# Altium integrated library Analog Devices RF IF Modulators and Demodulators.IntLib: 86 symbols (part 1 of 8)
Pins are listed as number, name and electrical type; pins without a type are passive.

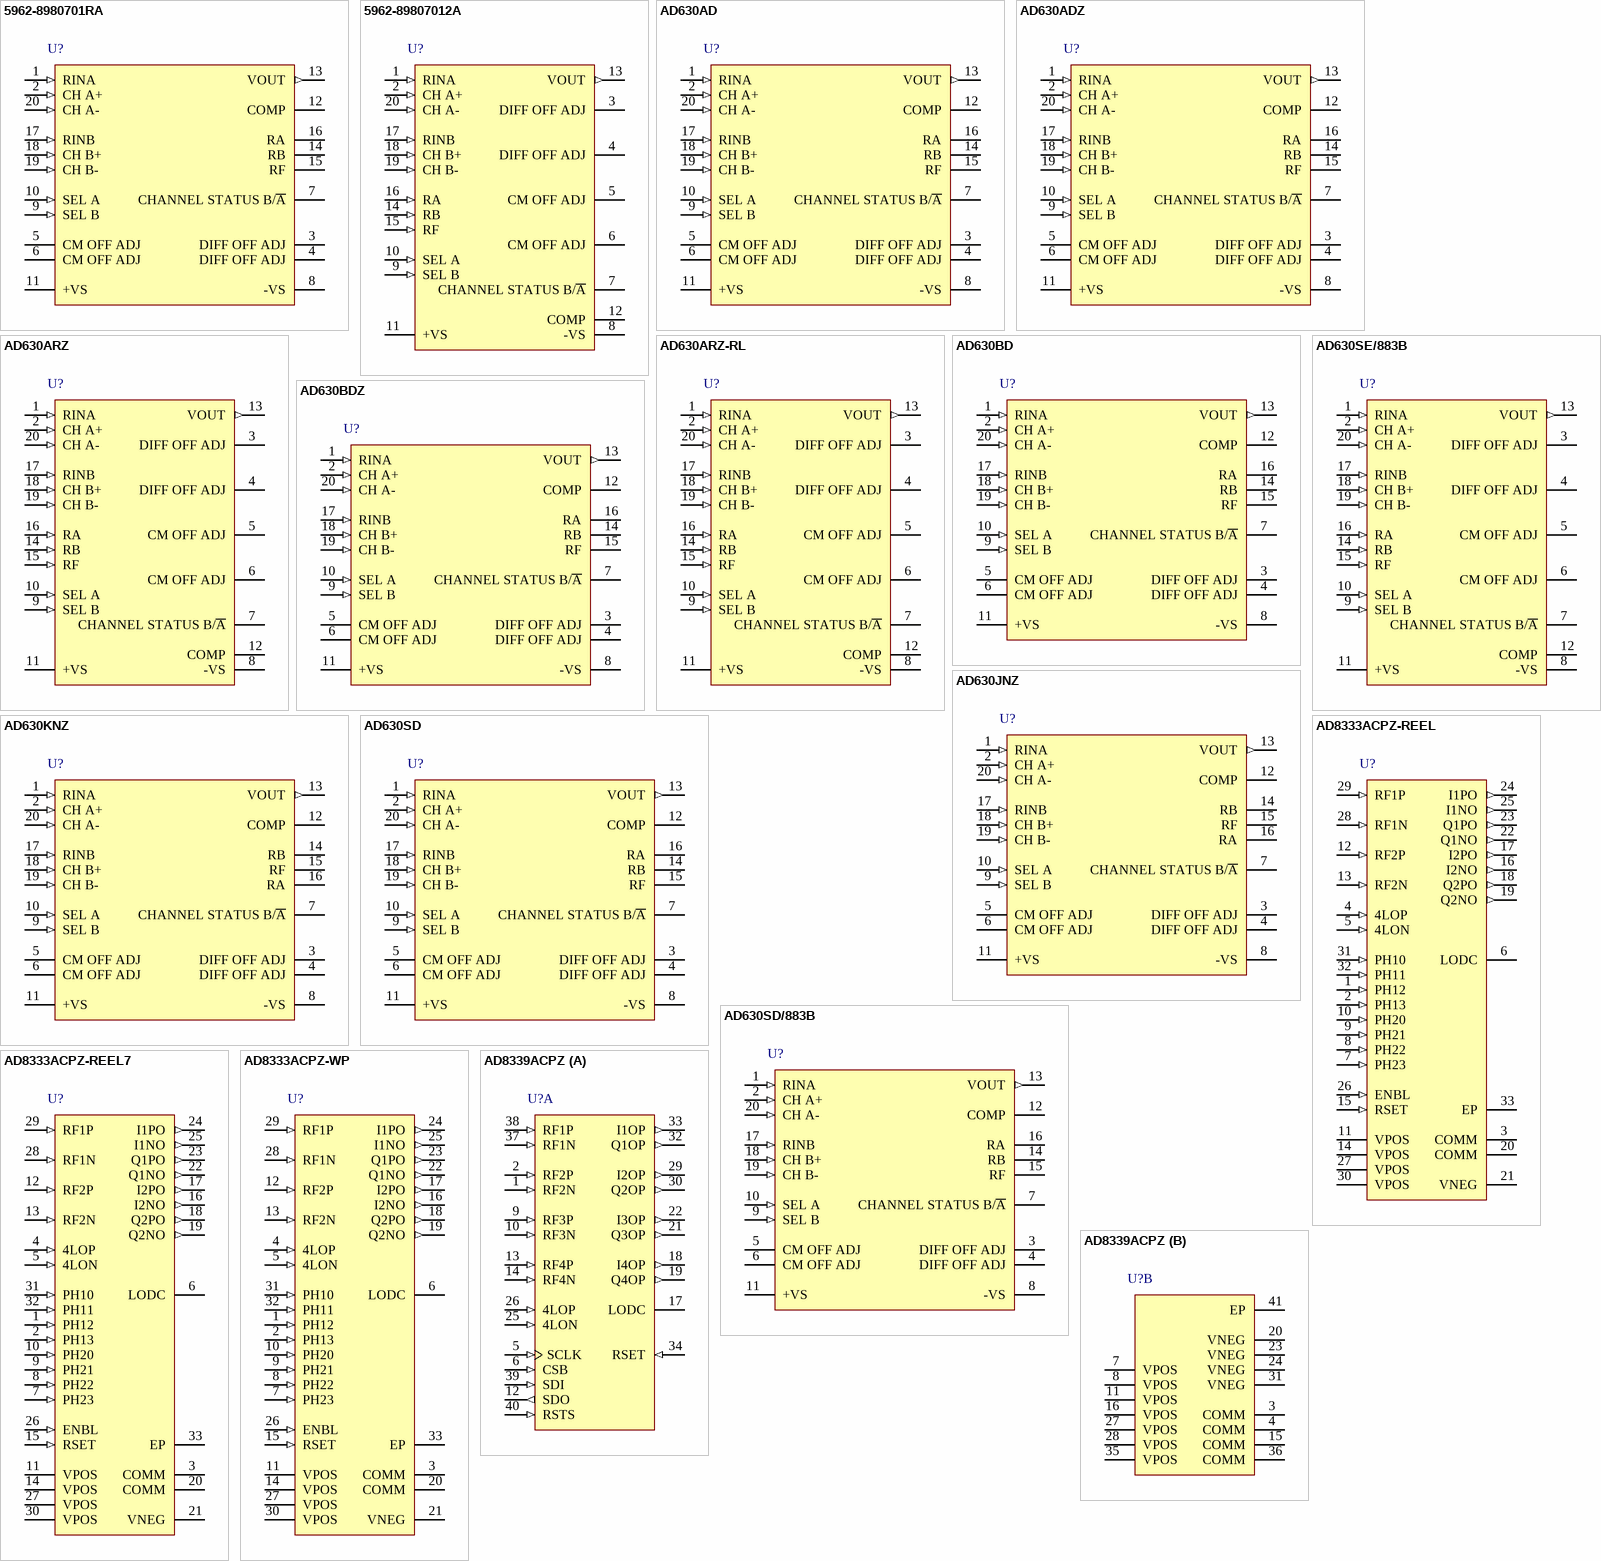
[diagram p0: symbols 5962-8980701RA to AD8339ACPZ]

## 5962-8980701RA
designator U?
Balanced Modulator/Demodulator, 2MHz Max RF Frequency, D-20, 19 Tube; Min RF Frequency (MHz): 0Hz; DatasheetVersion: RevE; PackageVersion: Oct-2004; PackageReference: D-20; PackageDescription: 20-Lead Side-Brazed Ceramic Dual In-Line Package [SBDIP]; Max RF Frequency (MHz): 2MHz; ComponentLink1Description: Manufacturer URL; ComponentLink1URL: www.analog.com; ComponentLink2Description: Datasheet; ComponentLink2URL: http://www.analog.com/static/imported-files/data_sheets/AD630.pdf; ComponentLink3Description: Package Specification; ComponentLink3URL: http://www.analog.com/static/imported-files/packages/31639175472309D_20.pdf
footprint ADI-D-20 (DIP, 20-Leads, Row Spacing 7.62mm, Pitch 2.54mm, Body 27x7.4mm)
pins: 1 RINA (in), 2 CH A+ (in), 3 DIFF OFF ADJ, 4 DIFF OFF ADJ, 5 CM OFF ADJ, 6 CM OFF ADJ, 7 CHANNEL STATUS B/~{A} (oc), 8 -VS (power), 9 SEL B (in), 10 SEL A (in), 11 +VS (power), 12 COMP, 13 VOUT (out), 14 RB, 15 RF, 16 RA, 17 RINB (in), 18 CH B+ (in), 19 CH B- (in), 20 CH A- (in)

## 5962-89807012A
designator U?
Balanced Modulator/Demodulator, 2MHz Max RF Frequency, E-20-1, 54 Tube; Min RF Frequency (MHz): 0Hz; DatasheetVersion: RevE; PackageVersion: 022106-A; PackageReference: E-20-1; PackageDescription: 20-Terminal Ceramic Leadless Chip Carrier [LCC]; Max RF Frequency (MHz): 2MHz; ComponentLink1Description: Manufacturer URL; ComponentLink1URL: www.analog.com; ComponentLink2Description: Datasheet; ComponentLink2URL: http://www.analog.com/static/imported-files/data_sheets/AD630.pdf; ComponentLink3Description: Package Specification; ComponentLink3URL: http://www.analog.com/static/imported-files/packages/PKG_PDF/LCC(E)/E_20_1.pdf
footprint ADI-E-20-1_N (Leadless Chip Carrier, 20-Leads, Body 8.9x8.9mm, Pitch 1.27mm, IPC Medium Density)
footprint ADI-E-20-1_L (Leadless Chip Carrier, 20-Leads, Body 8.9x8.9mm, Pitch 1.27mm, IPC High Density)
footprint ADI-E-20-1_M (Leadless Chip Carrier, 20-Leads, Body 8.9x8.9mm, Pitch 1.27mm, IPC Low Density)
pins: 1 RINA (in), 2 CH A+ (in), 3 DIFF OFF ADJ, 4 DIFF OFF ADJ, 5 CM OFF ADJ, 6 CM OFF ADJ, 7 CHANNEL STATUS B/~{A} (oc), 8 -VS (power), 9 SEL B (in), 10 SEL A (in), 11 +VS (power), 12 COMP, 13 VOUT (out), 14 RB (in), 15 RF (in), 16 RA (in), 17 RINB (in), 18 CH B+ (in), 19 CH B- (in), 20 CH A- (in)

## AD630AD
designator U?
Balanced Modulator/Demodulator, 2MHz Max RF Frequency, D-20, 19 Tube; Min RF Frequency (MHz): 0Hz; DatasheetVersion: RevE; PackageVersion: Oct-2004; PackageReference: D-20; PackageDescription: 20-Lead Side-Brazed Ceramic Dual In-Line Package [SBDIP]; Max RF Frequency (MHz): 2MHz; ComponentLink1Description: Manufacturer URL; ComponentLink1URL: www.analog.com; ComponentLink2Description: Datasheet; ComponentLink2URL: http://www.analog.com/static/imported-files/data_sheets/AD630.pdf; ComponentLink3Description: Package Specification; ComponentLink3URL: http://www.analog.com/static/imported-files/packages/31639175472309D_20.pdf
footprint ADI-D-20 (DIP, 20-Leads, Row Spacing 7.62mm, Pitch 2.54mm, Body 27x7.4mm)
pins: 1 RINA (in), 2 CH A+ (in), 3 DIFF OFF ADJ, 4 DIFF OFF ADJ, 5 CM OFF ADJ, 6 CM OFF ADJ, 7 CHANNEL STATUS B/~{A} (oc), 8 -VS (power), 9 SEL B (in), 10 SEL A (in), 11 +VS (power), 12 COMP, 13 VOUT (out), 14 RB, 15 RF, 16 RA, 17 RINB (in), 18 CH B+ (in), 19 CH B- (in), 20 CH A- (in)

## AD630ADZ
designator U?
Balanced Modulator/Demodulator, 2MHz Max RF Frequency, D-20, 19 Tube; Min RF Frequency (MHz): 0Hz; DatasheetVersion: RevE; PackageVersion: Oct-2004; PackageReference: D-20; PackageDescription: 20-Lead Side-Brazed Ceramic Dual In-Line Package [SBDIP]; Max RF Frequency (MHz): 2MHz; ComponentLink1Description: Manufacturer URL; ComponentLink1URL: www.analog.com; ComponentLink2Description: Datasheet; ComponentLink2URL: http://www.analog.com/static/imported-files/data_sheets/AD630.pdf; ComponentLink3Description: Package Specification; ComponentLink3URL: http://www.analog.com/static/imported-files/packages/31639175472309D_20.pdf
footprint ADI-D-20 (DIP, 20-Leads, Row Spacing 7.62mm, Pitch 2.54mm, Body 27x7.4mm)
pins: 1 RINA (in), 2 CH A+ (in), 3 DIFF OFF ADJ, 4 DIFF OFF ADJ, 5 CM OFF ADJ, 6 CM OFF ADJ, 7 CHANNEL STATUS B/~{A} (oc), 8 -VS (power), 9 SEL B (in), 10 SEL A (in), 11 +VS (power), 12 COMP, 13 VOUT (out), 14 RB, 15 RF, 16 RA, 17 RINB (in), 18 CH B+ (in), 19 CH B- (in), 20 CH A- (in)

## AD630ARZ
designator U?
Balanced Modulator/Demodulator, 2MHz Max RF Frequency, RW-20, 19 Tube; Min RF Frequency (MHz): 0Hz; DatasheetVersion: RevE; PackageVersion: 060706-A; PackageReference: RW-20; PackageDescription: 20-Lead Standard Small Outline Package[SOIC_W]; Max RF Frequency (MHz): 2MHz; Code_JEDEC: MS-013-AC; ComponentLink1Description: Manufacturer URL; ComponentLink1URL: www.analog.com; ComponentLink2Description: Datasheet; ComponentLink2URL: http://www.analog.com/static/imported-files/data_sheets/AD630.pdf; ComponentLink3Description: Package Specification; ComponentLink3URL: http://www.analog.com/static/imported-files/packages/233848RW_20.pdf
footprint ADI-RW-20_N (SOIC, 20-Leads, Body 12.8x7.5mm, Pitch 1.27mm, IPC Medium Density)
footprint ADI-RW-20_L (SOIC, 20-Leads, Body 12.8x7.5mm, Pitch 1.27mm, IPC High Density)
footprint ADI-RW-20_M (SOIC, 20-Leads, Body 12.8x7.5mm, Pitch 1.27mm, IPC Low Density)
pins: 1 RINA (in), 2 CH A+ (in), 3 DIFF OFF ADJ, 4 DIFF OFF ADJ, 5 CM OFF ADJ, 6 CM OFF ADJ, 7 CHANNEL STATUS B/~{A} (oc), 8 -VS (power), 9 SEL B (in), 10 SEL A (in), 11 +VS (power), 12 COMP, 13 VOUT (out), 14 RB (in), 15 RF (in), 16 RA (in), 17 RINB (in), 18 CH B+ (in), 19 CH B- (in), 20 CH A- (in)

## AD630ARZ-RL
designator U?
Balanced Modulator/Demodulator, 2MHz Max RF Frequency, RW-20, 1000 Reel; Min RF Frequency (MHz): 0Hz; DatasheetVersion: RevE; PackageVersion: 060706-A; PackageReference: RW-20; PackageDescription: 20-Lead Standard Small Outline Package[SOIC_W]; Max RF Frequency (MHz): 2MHz; Code_JEDEC: MS-013-AC; ComponentLink1Description: Manufacturer URL; ComponentLink1URL: www.analog.com; ComponentLink2Description: Datasheet; ComponentLink2URL: http://www.analog.com/static/imported-files/data_sheets/AD630.pdf; ComponentLink3Description: Package Specification; ComponentLink3URL: http://www.analog.com/static/imported-files/packages/233848RW_20.pdf
footprint ADI-RW-20_N (SOIC, 20-Leads, Body 12.8x7.5mm, Pitch 1.27mm, IPC Medium Density)
footprint ADI-RW-20_L (SOIC, 20-Leads, Body 12.8x7.5mm, Pitch 1.27mm, IPC High Density)
footprint ADI-RW-20_M (SOIC, 20-Leads, Body 12.8x7.5mm, Pitch 1.27mm, IPC Low Density)
pins: 1 RINA (in), 2 CH A+ (in), 3 DIFF OFF ADJ, 4 DIFF OFF ADJ, 5 CM OFF ADJ, 6 CM OFF ADJ, 7 CHANNEL STATUS B/~{A} (oc), 8 -VS (power), 9 SEL B (in), 10 SEL A (in), 11 +VS (power), 12 COMP, 13 VOUT (out), 14 RB (in), 15 RF (in), 16 RA (in), 17 RINB (in), 18 CH B+ (in), 19 CH B- (in), 20 CH A- (in)

## AD630BD
designator U?
Balanced Modulator/Demodulator, 2MHz Max RF Frequency, D-20, 19 Tube; Min RF Frequency (MHz): 0Hz; DatasheetVersion: RevE; PackageVersion: Oct-2004; PackageReference: D-20; PackageDescription: 20-Lead Side-Brazed Ceramic Dual In-Line Package [SBDIP]; Max RF Frequency (MHz): 2MHz; ComponentLink1Description: Manufacturer URL; ComponentLink1URL: www.analog.com; ComponentLink2Description: Datasheet; ComponentLink2URL: http://www.analog.com/static/imported-files/data_sheets/AD630.pdf; ComponentLink3Description: Package Specification; ComponentLink3URL: http://www.analog.com/static/imported-files/packages/31639175472309D_20.pdf
footprint ADI-D-20 (DIP, 20-Leads, Row Spacing 7.62mm, Pitch 2.54mm, Body 27x7.4mm)
pins: 1 RINA (in), 2 CH A+ (in), 3 DIFF OFF ADJ, 4 DIFF OFF ADJ, 5 CM OFF ADJ, 6 CM OFF ADJ, 7 CHANNEL STATUS B/~{A} (oc), 8 -VS (power), 9 SEL B (in), 10 SEL A (in), 11 +VS (power), 12 COMP, 13 VOUT (out), 14 RB, 15 RF, 16 RA, 17 RINB (in), 18 CH B+ (in), 19 CH B- (in), 20 CH A- (in)

## AD630BDZ
designator U?
Balanced Modulator/Demodulator, 2MHz Max RF Frequency, D-20, 19 Tube; Min RF Frequency (MHz): 0Hz; DatasheetVersion: RevE; PackageVersion: Oct-2004; PackageReference: D-20; PackageDescription: 20-Lead Side-Brazed Ceramic Dual In-Line Package [SBDIP]; Max RF Frequency (MHz): 2MHz; ComponentLink1Description: Manufacturer URL; ComponentLink1URL: www.analog.com; ComponentLink2Description: Datasheet; ComponentLink2URL: http://www.analog.com/static/imported-files/data_sheets/AD630.pdf; ComponentLink3Description: Package Specification; ComponentLink3URL: http://www.analog.com/static/imported-files/packages/31639175472309D_20.pdf
footprint ADI-D-20 (DIP, 20-Leads, Row Spacing 7.62mm, Pitch 2.54mm, Body 27x7.4mm)
pins: 1 RINA (in), 2 CH A+ (in), 3 DIFF OFF ADJ, 4 DIFF OFF ADJ, 5 CM OFF ADJ, 6 CM OFF ADJ, 7 CHANNEL STATUS B/~{A} (oc), 8 -VS (power), 9 SEL B (in), 10 SEL A (in), 11 +VS (power), 12 COMP, 13 VOUT (out), 14 RB, 15 RF, 16 RA, 17 RINB (in), 18 CH B+ (in), 19 CH B- (in), 20 CH A- (in)

## AD630JNZ
designator U?
Balanced Modulator/Demodulator, 2MHz Max RF Frequency, N-20, 18 Tube; Min RF Frequency (MHz): 0Hz; DatasheetVersion: RevE; PackageVersion: 070706-A; PackageReference: N-20; PackageDescription: 20-Lead Plastic Dual In-Line Package [PDIP]; Max RF Frequency (MHz): 2MHz; Code_JEDEC: MS-001; ComponentLink1Description: Manufacturer URL; ComponentLink1URL: www.analog.com; ComponentLink2Description: Datasheet; ComponentLink2URL: http://www.analog.com/static/imported-files/data_sheets/AD630.pdf; ComponentLink3Description: Package Specification; ComponentLink3URL: http://www.analog.com/static/imported-files/packages/50601349676519N_20.pdf
footprint ADI-N-20 (DIP, 20-Leads, Row Spacing 7.62mm, Pitch 2.54mm, Body 25.9x6.6mm)
pins: 1 RINA (in), 2 CH A+ (in), 3 DIFF OFF ADJ, 4 DIFF OFF ADJ, 5 CM OFF ADJ, 6 CM OFF ADJ, 7 CHANNEL STATUS B/~{A} (oc), 8 -VS (power), 9 SEL B (in), 10 SEL A (in), 11 +VS (power), 12 COMP, 13 VOUT (out), 14 RB, 15 RF, 16 RA, 17 RINB (in), 18 CH B+ (in), 19 CH B- (in), 20 CH A- (in)

## AD630KNZ
designator U?
Balanced Modulator/Demodulator, 2MHz Max RF Frequency, N-20, 18 Tube; Min RF Frequency (MHz): 0Hz; DatasheetVersion: RevE; PackageVersion: 070706-A; PackageReference: N-20; PackageDescription: 20-Lead Plastic Dual In-Line Package [PDIP]; Max RF Frequency (MHz): 2MHz; Code_JEDEC: MS-001; ComponentLink1Description: Manufacturer URL; ComponentLink1URL: www.analog.com; ComponentLink2Description: Datasheet; ComponentLink2URL: http://www.analog.com/static/imported-files/data_sheets/AD630.pdf; ComponentLink3Description: Package Specification; ComponentLink3URL: http://www.analog.com/static/imported-files/packages/50601349676519N_20.pdf
footprint ADI-N-20 (DIP, 20-Leads, Row Spacing 7.62mm, Pitch 2.54mm, Body 25.9x6.6mm)
pins: 1 RINA (in), 2 CH A+ (in), 3 DIFF OFF ADJ, 4 DIFF OFF ADJ, 5 CM OFF ADJ, 6 CM OFF ADJ, 7 CHANNEL STATUS B/~{A} (oc), 8 -VS (power), 9 SEL B (in), 10 SEL A (in), 11 +VS (power), 12 COMP, 13 VOUT (out), 14 RB, 15 RF, 16 RA, 17 RINB (in), 18 CH B+ (in), 19 CH B- (in), 20 CH A- (in)

## AD630SD
designator U?
Balanced Modulator/Demodulator, 2MHz Max RF Frequency, D-20, 19 Tube; Min RF Frequency (MHz): 0Hz; DatasheetVersion: RevE; PackageVersion: Oct-2004; PackageReference: D-20; PackageDescription: 20-Lead Side-Brazed Ceramic Dual In-Line Package [SBDIP]; Max RF Frequency (MHz): 2MHz; ComponentLink1Description: Manufacturer URL; ComponentLink1URL: www.analog.com; ComponentLink2Description: Datasheet; ComponentLink2URL: http://www.analog.com/static/imported-files/data_sheets/AD630.pdf; ComponentLink3Description: Package Specification; ComponentLink3URL: http://www.analog.com/static/imported-files/packages/31639175472309D_20.pdf
footprint ADI-D-20 (DIP, 20-Leads, Row Spacing 7.62mm, Pitch 2.54mm, Body 27x7.4mm)
pins: 1 RINA (in), 2 CH A+ (in), 3 DIFF OFF ADJ, 4 DIFF OFF ADJ, 5 CM OFF ADJ, 6 CM OFF ADJ, 7 CHANNEL STATUS B/~{A} (oc), 8 -VS (power), 9 SEL B (in), 10 SEL A (in), 11 +VS (power), 12 COMP, 13 VOUT (out), 14 RB, 15 RF, 16 RA, 17 RINB (in), 18 CH B+ (in), 19 CH B- (in), 20 CH A- (in)

## AD630SD/883B
designator U?
Balanced Modulator/Demodulator, 2MHz Max RF Frequency, D-20, 19 Tube; Min RF Frequency (MHz): 0Hz; DatasheetVersion: RevE; PackageVersion: Oct-2004; PackageReference: D-20; PackageDescription: 20-Lead Side-Brazed Ceramic Dual In-Line Package [SBDIP]; Max RF Frequency (MHz): 2MHz; ComponentLink1Description: Manufacturer URL; ComponentLink1URL: www.analog.com; ComponentLink2Description: Datasheet; ComponentLink2URL: http://www.analog.com/static/imported-files/data_sheets/AD630.pdf; ComponentLink3Description: Package Specification; ComponentLink3URL: http://www.analog.com/static/imported-files/packages/31639175472309D_20.pdf
footprint ADI-D-20 (DIP, 20-Leads, Row Spacing 7.62mm, Pitch 2.54mm, Body 27x7.4mm)
pins: 1 RINA (in), 2 CH A+ (in), 3 DIFF OFF ADJ, 4 DIFF OFF ADJ, 5 CM OFF ADJ, 6 CM OFF ADJ, 7 CHANNEL STATUS B/~{A} (oc), 8 -VS (power), 9 SEL B (in), 10 SEL A (in), 11 +VS (power), 12 COMP, 13 VOUT (out), 14 RB, 15 RF, 16 RA, 17 RINB (in), 18 CH B+ (in), 19 CH B- (in), 20 CH A- (in)

## AD630SE/883B
designator U?
Balanced Modulator/Demodulator, 2MHz Max RF Frequency, E-20-1, 54 Tube; Min RF Frequency (MHz): 0Hz; DatasheetVersion: RevE; PackageVersion: 022106-A; PackageReference: E-20-1; PackageDescription: 20-Terminal Ceramic Leadless Chip Carrier [LCC]; Max RF Frequency (MHz): 2MHz; ComponentLink1Description: Manufacturer URL; ComponentLink1URL: www.analog.com; ComponentLink2Description: Datasheet; ComponentLink2URL: http://www.analog.com/static/imported-files/data_sheets/AD630.pdf; ComponentLink3Description: Package Specification; ComponentLink3URL: http://www.analog.com/static/imported-files/packages/PKG_PDF/LCC(E)/E_20_1.pdf
footprint ADI-E-20-1_N (Leadless Chip Carrier, 20-Leads, Body 8.9x8.9mm, Pitch 1.27mm, IPC Medium Density)
footprint ADI-E-20-1_L (Leadless Chip Carrier, 20-Leads, Body 8.9x8.9mm, Pitch 1.27mm, IPC High Density)
footprint ADI-E-20-1_M (Leadless Chip Carrier, 20-Leads, Body 8.9x8.9mm, Pitch 1.27mm, IPC Low Density)
pins: 1 RINA (in), 2 CH A+ (in), 3 DIFF OFF ADJ, 4 DIFF OFF ADJ, 5 CM OFF ADJ, 6 CM OFF ADJ, 7 CHANNEL STATUS B/~{A} (oc), 8 -VS (power), 9 SEL B (in), 10 SEL A (in), 11 +VS (power), 12 COMP, 13 VOUT (out), 14 RB (in), 15 RF (in), 16 RA (in), 17 RINB (in), 18 CH B+ (in), 19 CH B- (in), 20 CH A- (in)

## AD8333ACPZ-REEL
designator U?
DC to 50 MHz, Dual I/Q Demodulator and Phase Shifter, CP-32-2, Pb-Free, 5000 Reel; Min RF Frequency (MHz): 0Hz; Max RF Frequency (MHz): 50MHz; Phase Error (deg): 0.1Deg; Amplitude Error (dB): 50mdB; IIP3 (+dBm): 30dBm; DatasheetVersion: Rev. D; PackageVersion: Jan-2005; PackageReference: CP-32-2; PackageDescription: 32-Lead Lead Frame Chip Scale Package [LFCSP_VQ]; Code_JEDEC: MO-220-VHHD-2; ComponentLink1Description: Manufacturer URL; ComponentLink1URL: www.analog.com; ComponentLink2Description: Datasheet; ComponentLink2URL: http://www.analog.com/static/imported-files/data_sheets/AD8333.pdf; ComponentLink3Description: Package Specification; ComponentLink3URL: http://www.analog.com/static/imported-files/packages/414143737956480539664569CP_32_2.pdf
footprint ADI-CP-32-2_N (QFN, 32-Leads, Body 5x5mm, Pitch 0.5mm, Thermal Pad 3.1x3.1mm, IPC Medium Density)
footprint ADI-CP-32-2_L (QFN, 32-Leads, Body 5x5mm, Pitch 0.5mm, Thermal Pad 3.1x3.1mm, IPC High Density)
footprint ADI-CP-32-2_M (QFN, 32-Leads, Body 5x5mm, Pitch 0.5mm, Thermal Pad 3.1x3.1mm, IPC Low Density)
pins: 1 PH12 (in) "Quadrant Select LSB, MSB. Binary code. These logic inputs select the quadrant: 0° to 90°, 90° to 180°, 180° to 270°, 270° to 360° (see Table 4). [see datasheet]", 2 PH13 (in) "Quadrant Select LSB, MSB. Binary code. These logic inputs select the quadrant: 0° to 90°, 90° to 180°, 180° to 270°, 270° to 360° (see Table 4). [see datasheet]", 3 COMM (power) "Ground. These two pins are internally tied together", 4 4LOP (in) "LO Inputs. No internal bias; therefore, these pins need to be biased by external circuitry. For optimum performance, these inputs should be driven differentially with a signal level that is not less than what is shown in Figure 22. [see datasheet]", 5 4LON (in) "LO Inputs. No internal bias; therefore, these pins need to be biased by external circuitry. For optimum performance, these inputs should be driven differentially with a signal level that is not less than what is shown in Figure 22. [see datasheet]", 6 LODC "Decoupling Pin for LO. A 0.1 uF capacitor should be connected between this pin and ground", 7 PH23 (in) "Quadrant Select LSB, MSB. Binary code. These logic inputs select the quadrant: 0° to 90°, 90° to 180°, 180° to 270°, 270° to 360° (see Table 4). [see datasheet]", 8 PH22 (in) "Quadrant Select LSB, MSB. Binary code. These logic inputs select the quadrant: 0° to 90°, 90° to 180°, 180° to 270°, 270° to 360° (see Table 4). [see datasheet]", 9 PH21 (in) "Phase Select LSB, MSB. Binary code. These logic inputs select the phase for a given quadrant: 0°, 22.5°, 45°, 67.5° (see Table 4). [see datasheet]", 10 PH20 (in) "Phase Select LSB, MSB. Binary code. These logic inputs select the phase for a given quadrant: 0°, 22.5°, 45°, 67.5° (see Table 4). [see datasheet]", 11 VPOS (power) "Positive Supply. These pins should be decoupled with a ferrite bead in series with the supply, plus a 0.1 uF and 100 pF capacitor between the VPOS pins and ground. [see datasheet]", 12 RF2P (in) "RF Inputs. These pins are biased internally; however, it is recommended that they be biased by dc coupling to the output pins of the AD8332 LNA. [see datasheet]", 13 RF2N (in) "RF Inputs. These pins are biased internally; however, it is recommended that they be biased by dc coupling to the output pins of the AD8332 LNA. [see datasheet]", 14 VPOS (power) "Positive Supply. These pins should be decoupled with a ferrite bead in series with the supply, plus a 0.1 uF and 100 pF capacitor between the VPOS pins and ground. [see datasheet]", 15 RSET (in) "Reset for Divide-by-4 in LO Interface. Logic threshold is at about 1.5 V and therefore can be driven by 3 V CMOS logic", 16 I2NO (out) "Negative I/Q Outputs. Not connected for typical applications", 17 I2PO (out) "Positive I/Q Outputs. These outputs provide a bidirectional current that can be converted back to a voltage via a transimpedance amplifier. [see datasheet]", 18 Q2PO (out) "Positive I/Q Outputs. These outputs provide a bidirectional current that can be converted back to a voltage via a transimpedance amplifier. [see datasheet]", 19 Q2NO (out) "Negative I/Q Outputs. Not connected for typical applications", 20 COMM (power) "Ground. These two pins are internally tied together", 21 VNEG (power) "Negative Supply. This pin should be decoupled with a ferrite bead in series with the supply, plus a 0.1 uF and 100 pF capacitor between the pin and ground", 22 Q1NO (out) "Negative I/Q Outputs. Not connected for typical applications", 23 Q1PO (out) "Positive I/Q Outputs. These outputs provide a bidirectional current that can be converted back to a voltage via a transimpedance amplifier. [see datasheet]", 24 I1PO (out) "Positive I/Q Outputs. These outputs provide a bidirectional current that can be converted back to a voltage via a transimpedance amplifier. [see datasheet]", 25 I1NO (out) "Negative I/Q Outputs. Not connected for typical applications", 26 ENBL (in) "Chip Enable. Logic threshold is at about 1.5 V and therefore can be driven by 3 V CMOS logic", 27 VPOS (power) "Positive Supply. These pins should be decoupled with a ferrite bead in series with the supply, plus a 0.1 uF and 100 pF capacitor between the VPOS pins and ground. [see datasheet]", 28 RF1N (in) "RF Inputs. These pins are biased internally; however, it is recommended that they be biased by dc coupling to the output pins of the AD8332 LNA. [see datasheet]", 29 RF1P (in) "RF Inputs. These pins are biased internally; however, it is recommended that they be biased by dc coupling to the output pins of the AD8332 LNA. [see datasheet]", 30 VPOS (power) "Positive Supply. These pins should be decoupled with a ferrite bead in series with the supply, plus a 0.1 uF and 100 pF capacitor between the VPOS pins and ground. [see datasheet]", 31 PH10 (in) "Phase Select LSB, MSB. Binary code. These logic inputs select the phase for a given quadrant: 0°, 22.5°, 45°, 67.5° (see Table 4). [see datasheet]", 32 PH11 (in) "Phase Select LSB, MSB. Binary code. These logic inputs select the phase for a given quadrant: 0°, 22.5°, 45°, 67.5° (see Table 4). [see datasheet]", 33 EP (power) "Exposed Pad"

## AD8333ACPZ-REEL7
designator U?
DC to 50 MHz, Dual I/Q Demodulator and Phase Shifter, CP-32-2, Pb-Free, 1500 Reel; Min RF Frequency (MHz): 0Hz; Max RF Frequency (MHz): 50MHz; Phase Error (deg): 0.1Deg; Amplitude Error (dB): 50mdB; IIP3 (+dBm): 30dBm; DatasheetVersion: Rev. D; PackageVersion: Jan-2005; PackageReference: CP-32-2; PackageDescription: 32-Lead Lead Frame Chip Scale Package [LFCSP_VQ]; Code_JEDEC: MO-220-VHHD-2; ComponentLink1Description: Manufacturer URL; ComponentLink1URL: www.analog.com; ComponentLink2Description: Datasheet; ComponentLink2URL: http://www.analog.com/static/imported-files/data_sheets/AD8333.pdf; ComponentLink3Description: Package Specification; ComponentLink3URL: http://www.analog.com/static/imported-files/packages/414143737956480539664569CP_32_2.pdf
footprint ADI-CP-32-2_N (QFN, 32-Leads, Body 5x5mm, Pitch 0.5mm, Thermal Pad 3.1x3.1mm, IPC Medium Density)
footprint ADI-CP-32-2_L (QFN, 32-Leads, Body 5x5mm, Pitch 0.5mm, Thermal Pad 3.1x3.1mm, IPC High Density)
footprint ADI-CP-32-2_M (QFN, 32-Leads, Body 5x5mm, Pitch 0.5mm, Thermal Pad 3.1x3.1mm, IPC Low Density)
pins: 1 PH12 (in) "Quadrant Select LSB, MSB. Binary code. These logic inputs select the quadrant: 0° to 90°, 90° to 180°, 180° to 270°, 270° to 360° (see Table 4). [see datasheet]", 2 PH13 (in) "Quadrant Select LSB, MSB. Binary code. These logic inputs select the quadrant: 0° to 90°, 90° to 180°, 180° to 270°, 270° to 360° (see Table 4). [see datasheet]", 3 COMM (power) "Ground. These two pins are internally tied together", 4 4LOP (in) "LO Inputs. No internal bias; therefore, these pins need to be biased by external circuitry. For optimum performance, these inputs should be driven differentially with a signal level that is not less than what is shown in Figure 22. [see datasheet]", 5 4LON (in) "LO Inputs. No internal bias; therefore, these pins need to be biased by external circuitry. For optimum performance, these inputs should be driven differentially with a signal level that is not less than what is shown in Figure 22. [see datasheet]", 6 LODC "Decoupling Pin for LO. A 0.1 uF capacitor should be connected between this pin and ground", 7 PH23 (in) "Quadrant Select LSB, MSB. Binary code. These logic inputs select the quadrant: 0° to 90°, 90° to 180°, 180° to 270°, 270° to 360° (see Table 4). [see datasheet]", 8 PH22 (in) "Quadrant Select LSB, MSB. Binary code. These logic inputs select the quadrant: 0° to 90°, 90° to 180°, 180° to 270°, 270° to 360° (see Table 4). [see datasheet]", 9 PH21 (in) "Phase Select LSB, MSB. Binary code. These logic inputs select the phase for a given quadrant: 0°, 22.5°, 45°, 67.5° (see Table 4). [see datasheet]", 10 PH20 (in) "Phase Select LSB, MSB. Binary code. These logic inputs select the phase for a given quadrant: 0°, 22.5°, 45°, 67.5° (see Table 4). [see datasheet]", 11 VPOS (power) "Positive Supply. These pins should be decoupled with a ferrite bead in series with the supply, plus a 0.1 uF and 100 pF capacitor between the VPOS pins and ground. [see datasheet]", 12 RF2P (in) "RF Inputs. These pins are biased internally; however, it is recommended that they be biased by dc coupling to the output pins of the AD8332 LNA. [see datasheet]", 13 RF2N (in) "RF Inputs. These pins are biased internally; however, it is recommended that they be biased by dc coupling to the output pins of the AD8332 LNA. [see datasheet]", 14 VPOS (power) "Positive Supply. These pins should be decoupled with a ferrite bead in series with the supply, plus a 0.1 uF and 100 pF capacitor between the VPOS pins and ground. [see datasheet]", 15 RSET (in) "Reset for Divide-by-4 in LO Interface. Logic threshold is at about 1.5 V and therefore can be driven by 3 V CMOS logic", 16 I2NO (out) "Negative I/Q Outputs. Not connected for typical applications", 17 I2PO (out) "Positive I/Q Outputs. These outputs provide a bidirectional current that can be converted back to a voltage via a transimpedance amplifier. [see datasheet]", 18 Q2PO (out) "Positive I/Q Outputs. These outputs provide a bidirectional current that can be converted back to a voltage via a transimpedance amplifier. [see datasheet]", 19 Q2NO (out) "Negative I/Q Outputs. Not connected for typical applications", 20 COMM (power) "Ground. These two pins are internally tied together", 21 VNEG (power) "Negative Supply. This pin should be decoupled with a ferrite bead in series with the supply, plus a 0.1 uF and 100 pF capacitor between the pin and ground", 22 Q1NO (out) "Negative I/Q Outputs. Not connected for typical applications", 23 Q1PO (out) "Positive I/Q Outputs. These outputs provide a bidirectional current that can be converted back to a voltage via a transimpedance amplifier. [see datasheet]", 24 I1PO (out) "Positive I/Q Outputs. These outputs provide a bidirectional current that can be converted back to a voltage via a transimpedance amplifier. [see datasheet]", 25 I1NO (out) "Negative I/Q Outputs. Not connected for typical applications", 26 ENBL (in) "Chip Enable. Logic threshold is at about 1.5 V and therefore can be driven by 3 V CMOS logic", 27 VPOS (power) "Positive Supply. These pins should be decoupled with a ferrite bead in series with the supply, plus a 0.1 uF and 100 pF capacitor between the VPOS pins and ground. [see datasheet]", 28 RF1N (in) "RF Inputs. These pins are biased internally; however, it is recommended that they be biased by dc coupling to the output pins of the AD8332 LNA. [see datasheet]", 29 RF1P (in) "RF Inputs. These pins are biased internally; however, it is recommended that they be biased by dc coupling to the output pins of the AD8332 LNA. [see datasheet]", 30 VPOS (power) "Positive Supply. These pins should be decoupled with a ferrite bead in series with the supply, plus a 0.1 uF and 100 pF capacitor between the VPOS pins and ground. [see datasheet]", 31 PH10 (in) "Phase Select LSB, MSB. Binary code. These logic inputs select the phase for a given quadrant: 0°, 22.5°, 45°, 67.5° (see Table 4). [see datasheet]", 32 PH11 (in) "Phase Select LSB, MSB. Binary code. These logic inputs select the phase for a given quadrant: 0°, 22.5°, 45°, 67.5° (see Table 4). [see datasheet]", 33 EP (power) "Exposed Pad"

## AD8333ACPZ-WP
designator U?
DC to 50 MHz, Dual I/Q Demodulator and Phase Shifter, CP-32-2, Pb-Free, 36 Tray; Min RF Frequency (MHz): 0Hz; Max RF Frequency (MHz): 50MHz; Phase Error (deg): 0.1Deg; Amplitude Error (dB): 50mdB; IIP3 (+dBm): 30dBm; DatasheetVersion: Rev. D; PackageVersion: Jan-2005; PackageReference: CP-32-2; PackageDescription: 32-Lead Lead Frame Chip Scale Package [LFCSP_VQ]; Code_JEDEC: MO-220-VHHD-2; ComponentLink1Description: Manufacturer URL; ComponentLink1URL: www.analog.com; ComponentLink2Description: Datasheet; ComponentLink2URL: http://www.analog.com/static/imported-files/data_sheets/AD8333.pdf; ComponentLink3Description: Package Specification; ComponentLink3URL: http://www.analog.com/static/imported-files/packages/414143737956480539664569CP_32_2.pdf
footprint ADI-CP-32-2_N (QFN, 32-Leads, Body 5x5mm, Pitch 0.5mm, Thermal Pad 3.1x3.1mm, IPC Medium Density)
footprint ADI-CP-32-2_L (QFN, 32-Leads, Body 5x5mm, Pitch 0.5mm, Thermal Pad 3.1x3.1mm, IPC High Density)
footprint ADI-CP-32-2_M (QFN, 32-Leads, Body 5x5mm, Pitch 0.5mm, Thermal Pad 3.1x3.1mm, IPC Low Density)
pins: 1 PH12 (in) "Quadrant Select LSB, MSB. Binary code. These logic inputs select the quadrant: 0° to 90°, 90° to 180°, 180° to 270°, 270° to 360° (see Table 4). [see datasheet]", 2 PH13 (in) "Quadrant Select LSB, MSB. Binary code. These logic inputs select the quadrant: 0° to 90°, 90° to 180°, 180° to 270°, 270° to 360° (see Table 4). [see datasheet]", 3 COMM (power) "Ground. These two pins are internally tied together", 4 4LOP (in) "LO Inputs. No internal bias; therefore, these pins need to be biased by external circuitry. For optimum performance, these inputs should be driven differentially with a signal level that is not less than what is shown in Figure 22. [see datasheet]", 5 4LON (in) "LO Inputs. No internal bias; therefore, these pins need to be biased by external circuitry. For optimum performance, these inputs should be driven differentially with a signal level that is not less than what is shown in Figure 22. [see datasheet]", 6 LODC "Decoupling Pin for LO. A 0.1 uF capacitor should be connected between this pin and ground", 7 PH23 (in) "Quadrant Select LSB, MSB. Binary code. These logic inputs select the quadrant: 0° to 90°, 90° to 180°, 180° to 270°, 270° to 360° (see Table 4). [see datasheet]", 8 PH22 (in) "Quadrant Select LSB, MSB. Binary code. These logic inputs select the quadrant: 0° to 90°, 90° to 180°, 180° to 270°, 270° to 360° (see Table 4). [see datasheet]", 9 PH21 (in) "Phase Select LSB, MSB. Binary code. These logic inputs select the phase for a given quadrant: 0°, 22.5°, 45°, 67.5° (see Table 4). [see datasheet]", 10 PH20 (in) "Phase Select LSB, MSB. Binary code. These logic inputs select the phase for a given quadrant: 0°, 22.5°, 45°, 67.5° (see Table 4). [see datasheet]", 11 VPOS (power) "Positive Supply. These pins should be decoupled with a ferrite bead in series with the supply, plus a 0.1 uF and 100 pF capacitor between the VPOS pins and ground. [see datasheet]", 12 RF2P (in) "RF Inputs. These pins are biased internally; however, it is recommended that they be biased by dc coupling to the output pins of the AD8332 LNA. [see datasheet]", 13 RF2N (in) "RF Inputs. These pins are biased internally; however, it is recommended that they be biased by dc coupling to the output pins of the AD8332 LNA. [see datasheet]", 14 VPOS (power) "Positive Supply. These pins should be decoupled with a ferrite bead in series with the supply, plus a 0.1 uF and 100 pF capacitor between the VPOS pins and ground. [see datasheet]", 15 RSET (in) "Reset for Divide-by-4 in LO Interface. Logic threshold is at about 1.5 V and therefore can be driven by 3 V CMOS logic", 16 I2NO (out) "Negative I/Q Outputs. Not connected for typical applications", 17 I2PO (out) "Positive I/Q Outputs. These outputs provide a bidirectional current that can be converted back to a voltage via a transimpedance amplifier. [see datasheet]", 18 Q2PO (out) "Positive I/Q Outputs. These outputs provide a bidirectional current that can be converted back to a voltage via a transimpedance amplifier. [see datasheet]", 19 Q2NO (out) "Negative I/Q Outputs. Not connected for typical applications", 20 COMM (power) "Ground. These two pins are internally tied together", 21 VNEG (power) "Negative Supply. This pin should be decoupled with a ferrite bead in series with the supply, plus a 0.1 uF and 100 pF capacitor between the pin and ground", 22 Q1NO (out) "Negative I/Q Outputs. Not connected for typical applications", 23 Q1PO (out) "Positive I/Q Outputs. These outputs provide a bidirectional current that can be converted back to a voltage via a transimpedance amplifier. [see datasheet]", 24 I1PO (out) "Positive I/Q Outputs. These outputs provide a bidirectional current that can be converted back to a voltage via a transimpedance amplifier. [see datasheet]", 25 I1NO (out) "Negative I/Q Outputs. Not connected for typical applications", 26 ENBL (in) "Chip Enable. Logic threshold is at about 1.5 V and therefore can be driven by 3 V CMOS logic", 27 VPOS (power) "Positive Supply. These pins should be decoupled with a ferrite bead in series with the supply, plus a 0.1 uF and 100 pF capacitor between the VPOS pins and ground. [see datasheet]", 28 RF1N (in) "RF Inputs. These pins are biased internally; however, it is recommended that they be biased by dc coupling to the output pins of the AD8332 LNA. [see datasheet]", 29 RF1P (in) "RF Inputs. These pins are biased internally; however, it is recommended that they be biased by dc coupling to the output pins of the AD8332 LNA. [see datasheet]", 30 VPOS (power) "Positive Supply. These pins should be decoupled with a ferrite bead in series with the supply, plus a 0.1 uF and 100 pF capacitor between the VPOS pins and ground. [see datasheet]", 31 PH10 (in) "Phase Select LSB, MSB. Binary code. These logic inputs select the phase for a given quadrant: 0°, 22.5°, 45°, 67.5° (see Table 4). [see datasheet]", 32 PH11 (in) "Phase Select LSB, MSB. Binary code. These logic inputs select the phase for a given quadrant: 0°, 22.5°, 45°, 67.5° (see Table 4). [see datasheet]", 33 EP (power) "Exposed Pad"

## AD8339ACPZ
designator U?
DC to 50 MHz, Quad I/Q Demodulator and Phase Shifter, CP-40-1, Pb-Free, 490 Tray; Min RF Frequency (MHz): 0Hz; Max RF Frequency (MHz): 50MHz; Phase Error (deg): 1Deg; Amplitude Error (dB): 250mdB; IIP3 (+dBm): 31dBm; DatasheetVersion: Rev. A; PackageVersion: Oct-2006; PackageReference: CP-40-1; PackageDescription: 40-Lead Lead Frame Chip Scale Package [LFCSP_VQ]; IQ Freq (MHz): 50MHz; Code_JEDEC: MO-220-VJJD-2; ComponentLink1Description: Manufacturer URL; ComponentLink1URL: www.analog.com; ComponentLink2Description: Datasheet; ComponentLink2URL: http://www.analog.com/static/imported-files/data_sheets/AD8339.pdf; ComponentLink3Description: Package Specification; ComponentLink3URL: http://www.analog.com/static/imported-files/packages/PKG_PDF/LFCSP(CP)/CP_40_1.pdf
footprint ADI-CP-40-1_N (QFN, 40-Leads, Body 6x6mm, Pitch 0.5mm, Thermal Pad 4.3x4.3mm, IPC Medium Density)
footprint ADI-CP-40-1_L (QFN, 40-Leads, Body 6x6mm, Pitch 0.5mm, Thermal Pad 4.3x4.3mm, IPC High Density)
footprint ADI-CP-40-1_M (QFN, 40-Leads, Body 6x6mm, Pitch 0.5mm, Thermal Pad 4.3x4.3mm, IPC Low Density)
part A pins: 1 RF2N (in) "RF Inputs. Require external 2.5 V bias for optimum symmetrical input differential swing if +/-5 V supplies are used.", 2 RF2P (in) "RF Inputs. Require external 2.5 V bias for optimum symmetrical input differential swing if +/-5 V supplies are used.", 5 SCLK (in) "Serial Interface Clock.", 6 CSB (in) "Serial Interface Chip Select Bar. Active low.", 9 RF3P (in) "RF Inputs. Require external 2.5 V bias for optimum symmetrical input differential swing if +/-5 V supplies are used.", 10 RF3N (in) "RF Inputs. Require external 2.5 V bias for optimum symmetrical input differential swing if +/-5 V supplies are used.", 12 SDO (out) "Serial Interface Data Output. Normally connected to the SDI pin of the next chip or left open.", 13 RF4P (in) "RF Inputs. Require external 2.5 V bias for optimum symmetrical input differential swing if +/-5 V supplies are used.", 14 RF4N (in) "RF Inputs. Require external 2.5 V bias for optimum symmetrical input differential swing if +/-5 V supplies are used.", 17 LODC "Decoupling Pin for LO. A 0.1 uF capacitor should be connected between this pin and ground. The value of this capacitor affects the chip enable/disable times.", 18 I4OP (out) "I/Q Outputs. These outputs provide a bidirectional current that can be converted back to a voltage via a transimpedance amplifier.[see datasheet]", 19 Q4OP (out) "I/Q Outputs. These outputs provide a bidirectional current that can be converted back to a voltage via a transimpedance amplifier.[see datasheet]", 21 Q3OP (out) "I/Q Outputs. These outputs provide a bidirectional current that can be converted back to a voltage via a transimpedance amplifier.[see datasheet]", 22 I3OP (out) "I/Q Outputs. These outputs provide a bidirectional current that can be converted back to a voltage via a transimpedance amplifier.[see datasheet]", 25 4LON (in) "LO Inputs. No internal bias; optimally biased by an LVDS driver. For best performance, these inputs should be driven differentially.[see datasheet]", 26 4LOP (in) "LO Inputs. No internal bias; optimally biased by an LVDS driver. For best performance, these inputs should be driven differentially.[see datasheet]", 29 I2OP (out) "I/Q Outputs. These outputs provide a bidirectional current that can be converted back to a voltage via a transimpedance amplifier.[see datasheet]", 30 Q2OP (out) "I/Q Outputs. These outputs provide a bidirectional current that can be converted back to a voltage via a transimpedance amplifier.[see datasheet]", 32 Q1OP (out) "I/Q Outputs. These outputs provide a bidirectional current that can be converted back to a voltage via a transimpedance amplifier.[see datasheet]", 33 I1OP (out) "I/Q Outputs. These outputs provide a bidirectional current that can be converted back to a voltage via a transimpedance amplifier.[see datasheet]", 34 RSET (in) "Reset for LO Interface. Logic threshold is at ~1.3 V and therefore can be driven by >1.8 V CMOS logic.", 37 RF1N (in) "RF Inputs. Require external 2.5 V bias for optimum symmetrical input differential swing if +/-5 V supplies are used.", 38 RF1P (in) "RF Inputs. Require external 2.5 V bias for optimum symmetrical input differential swing if +/-5 V supplies are used.", 39 SDI (in) "Serial Interface Data Input. Logic threshold is at ~1.3 V and therefore can be driven by >1.8 V CMOS logic.", 40 RSTS (in) "Reset for SPI Interface. Logic threshold is at ~1.5 V with +/-0.3 V hysteresis and should be driven by >3.3 V CMOS logic.[see dstssheet]"
part B pins: 3 COMM (power) "Ground.", 4 COMM (power) "Ground.", 7 VPOS (power) "Positive Supply. These pins should be decoupled with a ferrite bead in series with the supply and a 0.1 uF capacitor between the VPOS pins and ground.[see datasheet]", 8 VPOS (power) "Positive Supply. These pins should be decoupled with a ferrite bead in series with the supply and a 0.1 uF capacitor between the VPOS pins and ground. [see datasheet]", 11 VPOS (power) "Positive Supply. These pins should be decoupled with a ferrite bead in series with the supply and a 0.1 uF capacitor between the VPOS pins and ground.[see datasheet]", 15 COMM (power) "Ground.", 16 VPOS (power) "Positive Supply. These pins should be decoupled with a ferrite bead in series with the supply and a 0.1 uF capacitor between the VPOS pins and ground.[see datasheet]", 20 VNEG (power) "Negative Supply. These pins should be decoupled with a ferrite bead in series with the supply and a 0.1 uF capacitor between the VNEG pins and ground.[see datasheet]", 23 VNEG (power) "Negative Supply. These pins should be decoupled with a ferrite bead in series with the supply and a 0.1 uF capacitor between the VNEG pins and ground.[see datasheet]", 24 VNEG (power) "Negative Supply. These pins should be decoupled with a ferrite bead in series with the supply and a 0.1 uF capacitor between the VNEG pins and ground.[see datasheet]", 27 VPOS (power) "Positive Supply. These pins should be decoupled with a ferrite bead in series with the supply and a 0.1 uF capacitor between the VPOS pins and ground. [see datasheet]", 28 VPOS (power) "Positive Supply. These pins should be decoupled with a ferrite bead in series with the supply and a 0.1 uF capacitor between the VPOS pins and ground. [see datasheet]", 31 VNEG (power) "Negative Supply. These pins should be decoupled with a ferrite bead in series with the supply and a 0.1 uF capacitor between the VNEG pins and ground.[see datasheet]", 35 VPOS (power) "Positive Supply. These pins should be decoupled with a ferrite bead in series with the supply and a 0.1 uF capacitor between the VPOS pins and ground.[see datasheet]", 36 COMM (power) "Ground.", 41 EP (power) "Exposed Pad. The exposed pad is not connected internally.[see dstssheet]"

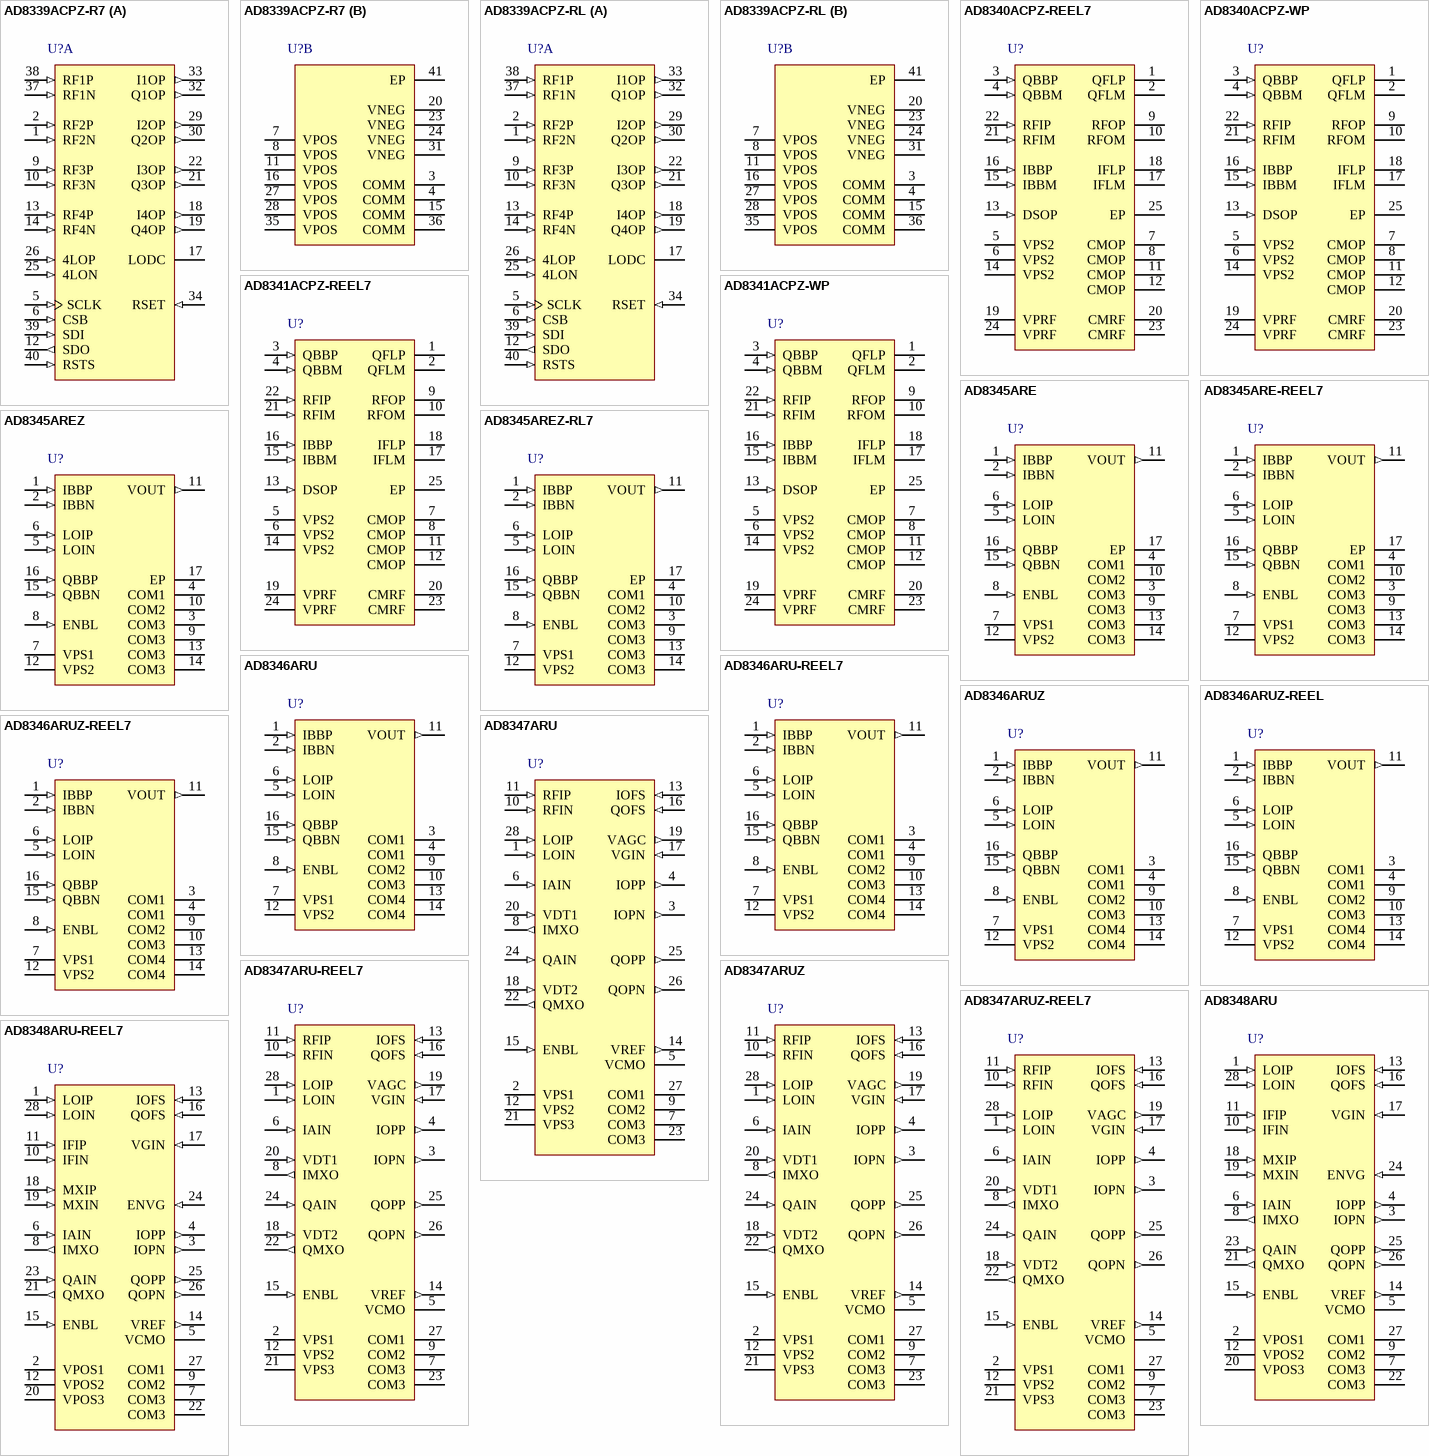
[diagram p1: symbols AD8339ACPZ-R7 to AD8348ARU-REEL7]

## AD8339ACPZ-R7
designator U?
DC to 50 MHz, Quad I/Q Demodulator and Phase Shifter, CP-40-1, Pb-Free, 750 Reel; Min RF Frequency (MHz): 0Hz; Max RF Frequency (MHz): 50MHz; Phase Error (deg): 1Deg; Amplitude Error (dB): 250mdB; IIP3 (+dBm): 31dBm; DatasheetVersion: Rev. A; PackageVersion: Oct-2006; PackageReference: CP-40-1; PackageDescription: 40-Lead Lead Frame Chip Scale Package [LFCSP_VQ]; IQ Freq (MHz): 50MHz; Code_JEDEC: MO-220-VJJD-2; ComponentLink1Description: Manufacturer URL; ComponentLink1URL: www.analog.com; ComponentLink2Description: Datasheet; ComponentLink2URL: http://www.analog.com/static/imported-files/data_sheets/AD8339.pdf; ComponentLink3Description: Package Specification; ComponentLink3URL: http://www.analog.com/static/imported-files/packages/PKG_PDF/LFCSP(CP)/CP_40_1.pdf
footprint ADI-CP-40-1_N (QFN, 40-Leads, Body 6x6mm, Pitch 0.5mm, Thermal Pad 4.3x4.3mm, IPC Medium Density)
footprint ADI-CP-40-1_L (QFN, 40-Leads, Body 6x6mm, Pitch 0.5mm, Thermal Pad 4.3x4.3mm, IPC High Density)
footprint ADI-CP-40-1_M (QFN, 40-Leads, Body 6x6mm, Pitch 0.5mm, Thermal Pad 4.3x4.3mm, IPC Low Density)
part A pins: 1 RF2N (in) "RF Inputs. Require external 2.5 V bias for optimum symmetrical input differential swing if +/-5 V supplies are used.", 2 RF2P (in) "RF Inputs. Require external 2.5 V bias for optimum symmetrical input differential swing if +/-5 V supplies are used.", 5 SCLK (in) "Serial Interface Clock.", 6 CSB (in) "Serial Interface Chip Select Bar. Active low.", 9 RF3P (in) "RF Inputs. Require external 2.5 V bias for optimum symmetrical input differential swing if +/-5 V supplies are used.", 10 RF3N (in) "RF Inputs. Require external 2.5 V bias for optimum symmetrical input differential swing if +/-5 V supplies are used.", 12 SDO (out) "Serial Interface Data Output. Normally connected to the SDI pin of the next chip or left open.", 13 RF4P (in) "RF Inputs. Require external 2.5 V bias for optimum symmetrical input differential swing if +/-5 V supplies are used.", 14 RF4N (in) "RF Inputs. Require external 2.5 V bias for optimum symmetrical input differential swing if +/-5 V supplies are used.", 17 LODC "Decoupling Pin for LO. A 0.1 uF capacitor should be connected between this pin and ground. The value of this capacitor affects the chip enable/disable times.", 18 I4OP (out) "I/Q Outputs. These outputs provide a bidirectional current that can be converted back to a voltage via a transimpedance amplifier.[see datasheet]", 19 Q4OP (out) "I/Q Outputs. These outputs provide a bidirectional current that can be converted back to a voltage via a transimpedance amplifier.[see datasheet]", 21 Q3OP (out) "I/Q Outputs. These outputs provide a bidirectional current that can be converted back to a voltage via a transimpedance amplifier.[see datasheet]", 22 I3OP (out) "I/Q Outputs. These outputs provide a bidirectional current that can be converted back to a voltage via a transimpedance amplifier.[see datasheet]", 25 4LON (in) "LO Inputs. No internal bias; optimally biased by an LVDS driver. For best performance, these inputs should be driven differentially.[see datasheet]", 26 4LOP (in) "LO Inputs. No internal bias; optimally biased by an LVDS driver. For best performance, these inputs should be driven differentially.[see datasheet]", 29 I2OP (out) "I/Q Outputs. These outputs provide a bidirectional current that can be converted back to a voltage via a transimpedance amplifier.[see datasheet]", 30 Q2OP (out) "I/Q Outputs. These outputs provide a bidirectional current that can be converted back to a voltage via a transimpedance amplifier.[see datasheet]", 32 Q1OP (out) "I/Q Outputs. These outputs provide a bidirectional current that can be converted back to a voltage via a transimpedance amplifier.[see datasheet]", 33 I1OP (out) "I/Q Outputs. These outputs provide a bidirectional current that can be converted back to a voltage via a transimpedance amplifier.[see datasheet]", 34 RSET (in) "Reset for LO Interface. Logic threshold is at ~1.3 V and therefore can be driven by >1.8 V CMOS logic.", 37 RF1N (in) "RF Inputs. Require external 2.5 V bias for optimum symmetrical input differential swing if +/-5 V supplies are used.", 38 RF1P (in) "RF Inputs. Require external 2.5 V bias for optimum symmetrical input differential swing if +/-5 V supplies are used.", 39 SDI (in) "Serial Interface Data Input. Logic threshold is at ~1.3 V and therefore can be driven by >1.8 V CMOS logic.", 40 RSTS (in) "Reset for SPI Interface. Logic threshold is at ~1.5 V with +/-0.3 V hysteresis and should be driven by >3.3 V CMOS logic.[see dstssheet]"
part B pins: 3 COMM (power) "Ground.", 4 COMM (power) "Ground.", 7 VPOS (power) "Positive Supply. These pins should be decoupled with a ferrite bead in series with the supply and a 0.1 uF capacitor between the VPOS pins and ground.[see datasheet]", 8 VPOS (power) "Positive Supply. These pins should be decoupled with a ferrite bead in series with the supply and a 0.1 uF capacitor between the VPOS pins and ground. [see datasheet]", 11 VPOS (power) "Positive Supply. These pins should be decoupled with a ferrite bead in series with the supply and a 0.1 uF capacitor between the VPOS pins and ground.[see datasheet]", 15 COMM (power) "Ground.", 16 VPOS (power) "Positive Supply. These pins should be decoupled with a ferrite bead in series with the supply and a 0.1 uF capacitor between the VPOS pins and ground.[see datasheet]", 20 VNEG (power) "Negative Supply. These pins should be decoupled with a ferrite bead in series with the supply and a 0.1 uF capacitor between the VNEG pins and ground.[see datasheet]", 23 VNEG (power) "Negative Supply. These pins should be decoupled with a ferrite bead in series with the supply and a 0.1 uF capacitor between the VNEG pins and ground.[see datasheet]", 24 VNEG (power) "Negative Supply. These pins should be decoupled with a ferrite bead in series with the supply and a 0.1 uF capacitor between the VNEG pins and ground.[see datasheet]", 27 VPOS (power) "Positive Supply. These pins should be decoupled with a ferrite bead in series with the supply and a 0.1 uF capacitor between the VPOS pins and ground. [see datasheet]", 28 VPOS (power) "Positive Supply. These pins should be decoupled with a ferrite bead in series with the supply and a 0.1 uF capacitor between the VPOS pins and ground. [see datasheet]", 31 VNEG (power) "Negative Supply. These pins should be decoupled with a ferrite bead in series with the supply and a 0.1 uF capacitor between the VNEG pins and ground.[see datasheet]", 35 VPOS (power) "Positive Supply. These pins should be decoupled with a ferrite bead in series with the supply and a 0.1 uF capacitor between the VPOS pins and ground.[see datasheet]", 36 COMM (power) "Ground.", 41 EP (power) "Exposed Pad. The exposed pad is not connected internally.[see dstssheet]"